# Altium integrated library custom_push_button.IntLib: 1 symbol
Pins are listed as number, name and electrical type; pins without a type are passive.

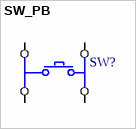
[diagram p0: symbol SW_PB]

## SW_PB
designator SW?
footprint KSA
footprint 1ZB
footprint 1ZC
footprint B3F-4000
pins: 1, 2, 3, 4